# Altium footprint library PcbLib1.PcbLib: 8 footprints
Each footprint in its own frame and in the unit in brackets; x right, y up, seen from the top. Pads: shape width x height; smd on the part's side, far side on the other; paste and mask are expansions set on the pad; w line width, h text height; cw(c..) or ccw(c..) is an arc to the next point about the centre after c.
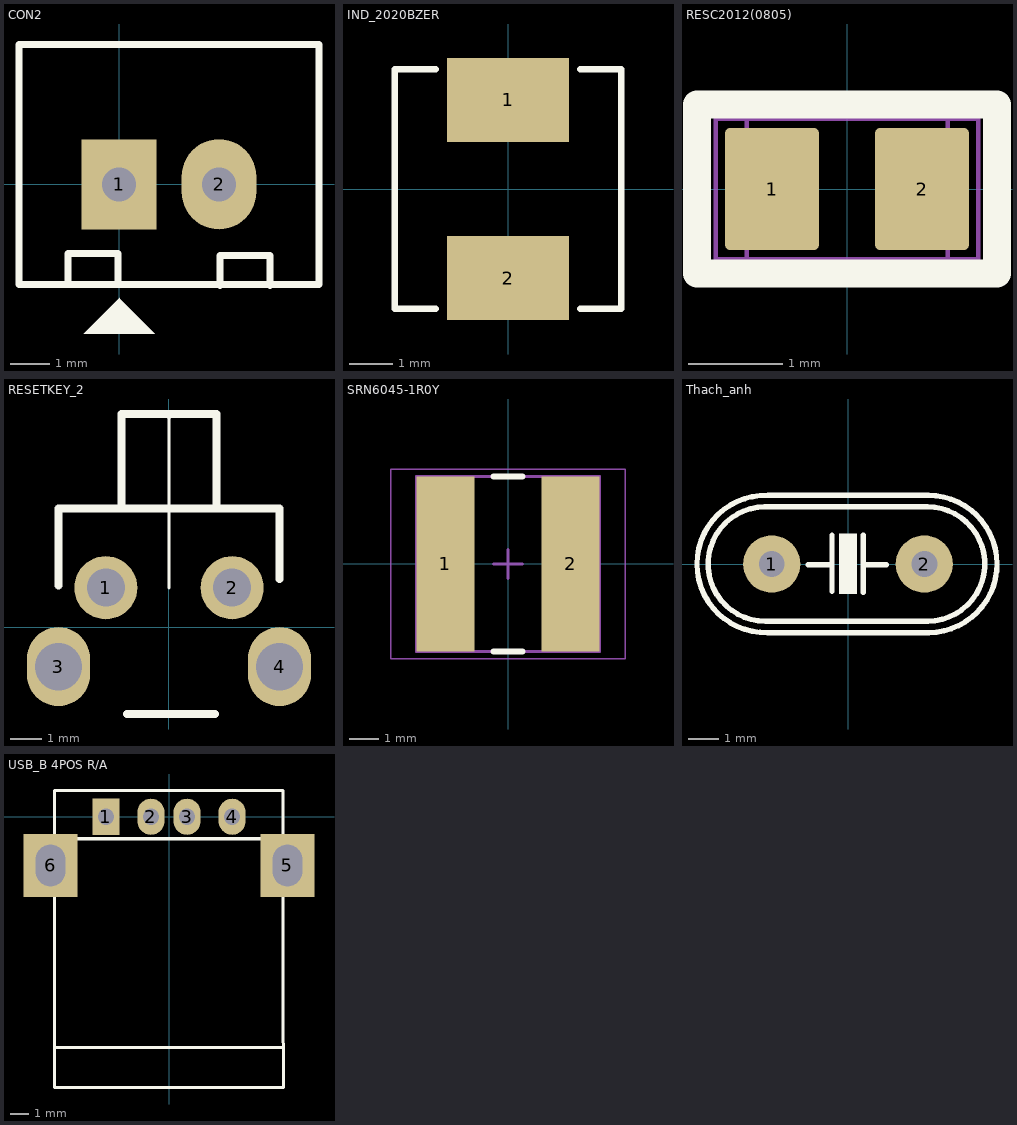
[diagram p0: the footprints below, top view; thin cyan lines are the x and y axes]

## CON2 [mil] "CON2"
height 200
pads (2):
  rect 75x90 hole 34: 1(0,0)
  oval 75x90 hole 34: 2(100,0)
Top Overlay:
  region: -35.5,-149.5 35.5,-149.5 0.5,-114.5 0.5,-113.5
  lines w7: -51,-99 -51,-69 -1,-69 -1,-99 ; 101,-101 101,-71 151,-71 151,-101 ; -100,-100 -100,140 200,140 200,-100 -100,-100
3D body "User Library-PCB HEADER (JST BxB-PH-K-S (VERTICAL)).STEP": height 236.22, standoff -75, extent -68.11,-70 168.11,107.17

## IND_2020BZER [mil] "VISHAY IHLP SERIES"
height 78.74
pads (2):
  rect 110x75.5 smd mask+1.97: 1(0,80.25) 2(0,-80.25)
Top Overlay:
  lines w6: -65,-108 -102,-108 -102,108 -65,108 ; 65,-108 102,-108 102,108 65,108
3D body: height 78, standoff 0, extent -99.84,-105 100,104.84

## PCBComponent_1 [mm]

## RESC2012(0805) [mm] "Chip Resistor, Body 2.0x1.3mm, 1/8W 0805"
height 0.65
pads (2):
  rrect10% 1x1.3 smd: 1(-0.8,0) 2(0.8,0)
Top Overlay:
  lines w0.3: -1.6,-0.9 1.6,-0.9 1.6,0.9 -1.6,0.9 -1.6,-0.9
Mechanical 1:
  lines w0.05: -1.07,-0.74 -1.07,0.75 ; 1.075,-0.74 1.075,0.75 ; -1.4,-0.75 1.4,-0.75 1.4,0.75 -1.4,0.75 -1.4,-0.75
3D body "Res 0805.STEP": height 0.6, standoff 0, extent -1,-0.625 1,0.625

## RESETKEY_2 [mm]
pads (4):
  round 2 hole 1.2 mask+0.05: 1(-2,1.25) 2(2,1.25)
  oval 2x2.5 hole 1.5 mask+0.05: 3(-3.5,-1.25) 4(3.5,-1.25)
Top Overlay:
  lines w0.1: 0,1.25 0,6.725
  lines w0.254: -3.5,1.325 -3.5,3.75 3.5,3.75 3.5,1.525 ; -1.5,3.75 -1.5,6.75 1.5,6.75 ; -1.325,-2.75 1.45,-2.75 ; 0,6.725 0.025,6.75 ; 0,6.75 1.5,6.75 ; 1.5,3.75 1.5,6.75
3D body "SW 6x6x7_H.STEP": height 7.27, standoff -3.03, extent -3.7,-2.52 3.7,7.293

## SRN6045-1R0Y [mm] "Precision Wire Wound Inductor, 2-Leads, Body 6.30x6.00mm, IPC Medium Density"
height 4.5
pads (2):
  rect 2x6 smd mask+0.05: 1(-2.15,0) 2(2.15,0)
Top Overlay:
  lines w0.203: -0.5,-3 0.5,-3 ; -0.5,3 0.5,3
Mechanical 13:
  lines w0.1: -3.15,-3 -3.15,3 3.15,3 3.15,-3 -3.15,-3
Mechanical 15:
  lines w0.05: -4.025,-3.25 -4.025,3.25 4.025,3.25 4.025,-3.25 -4.025,-3.25
  lines w0.1: -0.5,0 0.5,0 ; 0,-0.5 0,0.5
3D body: height 4.5, standoff 0, extent -2.921,-3 3.048,3

## Thach_anh [mil] "Footpin for Crystal 2 pin"
pads (2):
  round 75 hole 34: 1(-100,0) 2(100,0)
Top Overlay:
  region: 11.5,40 11.5,-39 -11.5,-39 -11.5,40
  lines w7: -109,75 ccw(c-108.5,0) -108.27,-75 ; -106.97,-75 103.03,-75 ; -105.97,75 104.03,75 ; -105.02,-90 105.91,-90 ccw(c105.31,0) 105.03,90 -104.97,90.01 ccw(c-108,0.06) -105.02,-89.89 ; -52,-1 -21,-1 ; -21,-36 -21,38 ; 20,-37 20,38 ; 20,-1 50,-1 ; 104,75 cw(c104.23,0) 104.73,-75
3D body "SW3dPS-HP49US.STEP": height 137.8, standoff -157.48, extent -233.43,-93.07 213.43,90

## USB_B 4POS R/A [mm] "USB A connector, 4pin, For USB sing"
height 2.54
pads (6):
  rect 1.5x2 hole 0.9: 1(-3.5,0)
  oval 1.5x2 hole 0.9: 2(-1,0) 3(1,0) 4(3.5,0)
  rect 3x3.5 hole 2.3 slot 1.65 at 0 deg: 5(6.57,-2.7) 6(-6.57,-2.7)
Top Overlay:
  lines w0.178: -6.375,-1.219 6.299,-1.219 ; -6.35,-12.802 6.325,-12.802 ; -6.35,-15.011 -6.35,1.448 6.325,1.448 6.325,-10.084 6.35,-15.011 -6.35,-15.011
3D body "usb_a-usbsa.stp": height 7.05, standoff -3.81, extent -7.875,-13.027 7.925,1.473